# EAGLE library part LMZ23610TZ/NOPB (library TI-Eagle_library)
BUCK, SYNC, ADJ, 10A, TO-PMOD-11
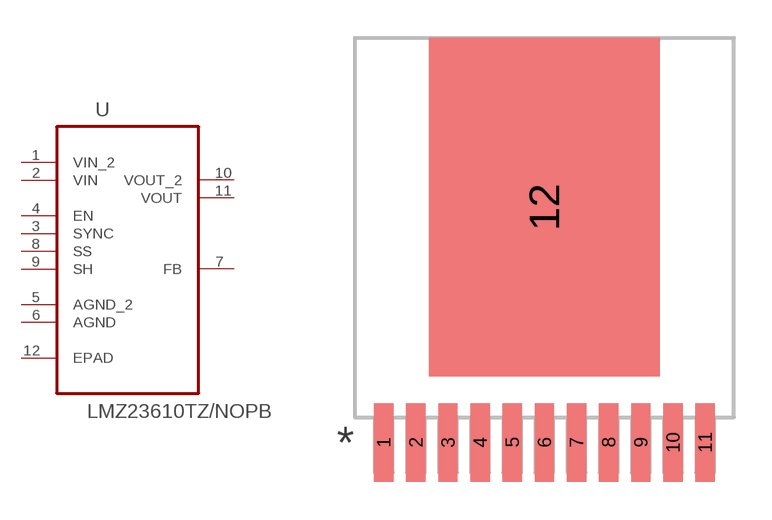
[diagram p7: symbol with the pads of TI_TO-PMOD-11; footprint TI_TO-PMOD-11]

Designator prefix U

## LMZ23610TZ/NOPB (MPN: LMZ23610TZ/NOPB; OC_FARNELL: 1922945; OC_NEWARK: 47T7408; PACKAGE: TO-PMOD-11; SUPPLIER: TEXAS INSTRUMENTS)  [TI_TO-PMOD-11]
1  VIN_2  pwr
2  VIN  pwr
3  SYNC  in
4  EN  in
5  AGND_2  pas
6  AGND  pas
7  FB  in
8  SS  in
9  SH  in
10  VOUT_2  out
11  VOUT  out
12  EPAD  pas

## Footprint TI_TO-PMOD-11 (pad centres in mm)
smd 0.762 x 3.099: 1 -6.35,-8.484; 2 -5.08,-8.484; 3 -3.81,-8.484; 4 -2.54,-8.484; 5 -1.27,-8.484; 6 0,-8.484; 7 1.27,-8.484; 8 2.54,-8.484; 9 3.81,-8.484; 10 5.08,-8.484; 11 6.35,-8.484
smd 9.126 x 13.37: 12 0,0.816